# Altium schematic symbol library Inductor_2Pin.Schlib: 1 symbol
Pins are listed as number, name and electrical type; pins without a type are passive.

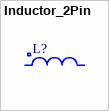
[diagram p0: symbol Inductor_2Pin]

## Inductor_2Pin
designator L?
Inductor
pins: 1, 2